# EAGLE library part ADA4937-2 (library .my_elements)
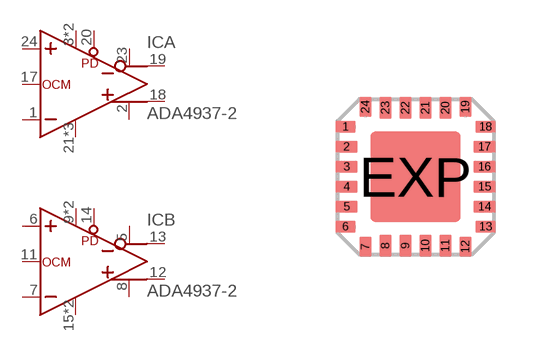
[diagram p2: symbol with the pads of LFCSP24; footprint LFCSP24]

Designator prefix IC; gates A=OP_DIFF B=OP_DIFF

## ADA4937-2YCPZ  [LFCSP24]
1  A:V_IN-  in
2  A:V_FB+  out
3  A:V_S+  pwr
4  A:V_S+  pwr
5  B:V_FB-  out
6  B:V_IN+  in
7  B:V_IN-  in
8  B:V_FB+  out
9  B:V_S+  pwr
10  B:V_S+  pwr
11  B:V_OCM  in
12  B:V_O+  out
13  B:V_O-
14  B:PD  in
15  B:V_S-  pwr
16  B:V_S-  pwr
17  A:V_OCM  in
18  A:V_O+  out
19  A:V_O-
20  A:PD  in
21  A:V_S-  pwr
22  A:V_S-  pwr
23  A:V_FB-  out
24  A:V_IN+  in
EXP  A:V_S-  pwr

## Footprint LFCSP24 (pad centres in mm)
24-Lead Lead Frame Chip Scale Package 4 mm × 4 mm (CP-24) Source: www.analog.com .. 3832984220209AD8133_0.pdf
smd 0.5 x 0.3: 1 -1.75,1.25; 6 -1.75,-1.25; 13 1.75,-1.25; 18 1.75,1.25
smd 0.55 x 0.3: 2 -1.725,0.75; 3 -1.725,0.25; 4 -1.725,-0.25; 5 -1.725,-0.75; 14 1.725,-0.75; 15 1.725,-0.25; 16 1.725,0.25; 17 1.725,0.75
smd 0.3 x 0.5: 7 -1.25,-1.75; 12 1.25,-1.75; 19 1.25,1.75; 24 -1.25,1.75
smd 0.3 x 0.55: 8 -0.75,-1.725; 9 -0.25,-1.725; 10 0.25,-1.725; 11 0.75,-1.725; 20 0.75,1.725; 21 0.25,1.725; 22 -0.25,1.725; 23 -0.75,1.725
smd 2.25 x 2.25: EXP 0,0